# Altium schematic symbol library tran_npn_2SD880L.SchLib: 1 symbol
Pins are listed as number, name and electrical type; pins without a type are passive.

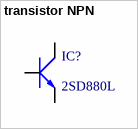
[diagram p0: symbol transistor NPN]

## transistor NPN
designator IC?, comment 2SD880L
footprint TO220 (TO-220)
pins: 1 B, 2 E, 3 C